# Altium footprint library stabilizator.PcbLib: 1 footprints
Each footprint in its own frame and in the unit in brackets; x right, y up, seen from the top. Pads: shape width x height; smd on the part's side, far side on the other; paste and mask are expansions set on the pad; w line width, h text height; cw(c..) or ccw(c..) is an arc to the next point about the centre after c.
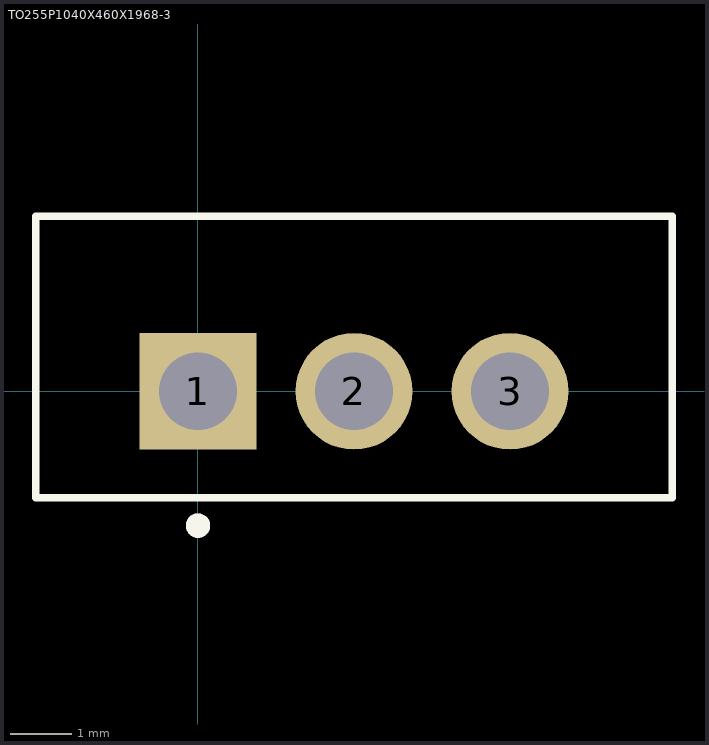
[diagram p0: the footprint, top view; thin cyan lines are the x and y axes]

## TO255P1040X460X1968-3 [mm]
pads (3):
  rect 1.91x1.91 / inner round 1.91 / far side rect 1.91x1.91 hole 1.27: 1(0,0)
  round 1.91 hole 1.27: 2(2.55,0) 3(5.1,0)
Top Overlay:
  circle w0.2: c0,-2.195 r0.1
  lines w0.127: -2.65,-1.74 -2.65,2.86 7.75,2.86 7.75,-1.74 -2.65,-1.74
Mechanical 13:
  circle w0.2: c0,-2.195 r0.1